# Altium schematic symbol library LP5912.Schlib: 1 symbol
Pins are listed as number, name and electrical type; pins without a type are passive.

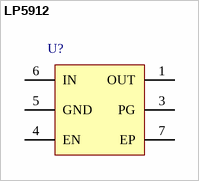
[diagram p0: symbol LP5912]

## LP5912
designator U?  (value not drawn)
500mA Low-Noise, Low-Iq LDO
pins: 1 OUT, 2 NC hidden, 3 PG, 4 EN, 5 GND, 6 IN, 7 EP